# EAGLE library part TL061CN (library ST Microelctronics_By_element14_Batch_1)
Low power JFET single operational amplifiers
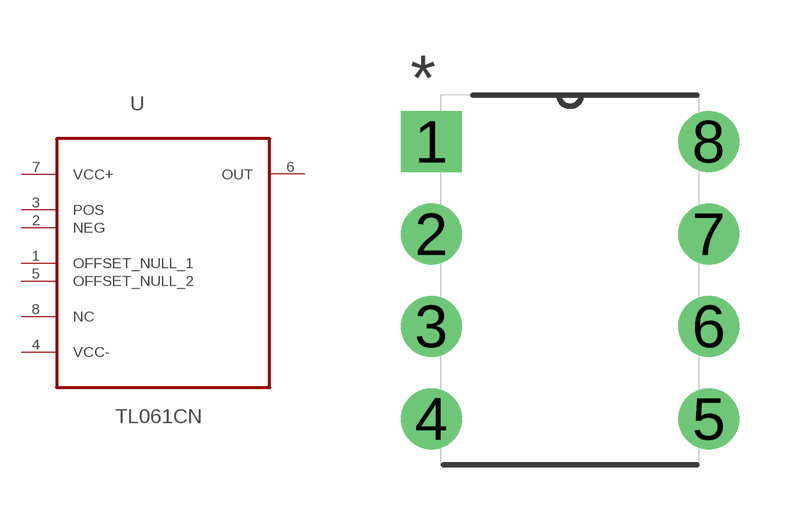
[diagram p392: symbol with the pads of DIP254P762X533-8; footprint DIP254P762X533-8]

Designator prefix U

## TL061CN (MPN: TL061CN; OC_FARNELL: 1094346; OC_NEWARK: 26M4190; PACKAGE: 8-DIP; SUPPLIER: STMICROELECTRONICS)  [DIP254P762X533-8]
1  OFFSET_NULL_1  pas
2  NEG  in
3  POS  in
4  VCC-  pwr
5  OFFSET_NULL_2  pas
6  OUT  out
7  VCC+  pwr
8  NC  nc

## Footprint DIP254P762X533-8 (pad centres in mm)
drill 1.118 square: 1 -7.62,7.62
drill 1.118: 2 -7.62,5.08; 3 -7.62,2.54; 4 -7.62,0; 5 0,0; 6 0,2.54; 7 0,5.08; 8 0,7.62